# Altium footprint library PCBLIB.PcbLib: 22 footprints (part 2 of 2)
Each footprint in its own frame and in the unit in brackets; x right, y up, seen from the top. Pads: shape width x height; smd on the part's side, far side on the other; paste and mask are expansions set on the pad; w line width, h text height; cw(c..) or ccw(c..) is an arc to the next point about the centre after c.
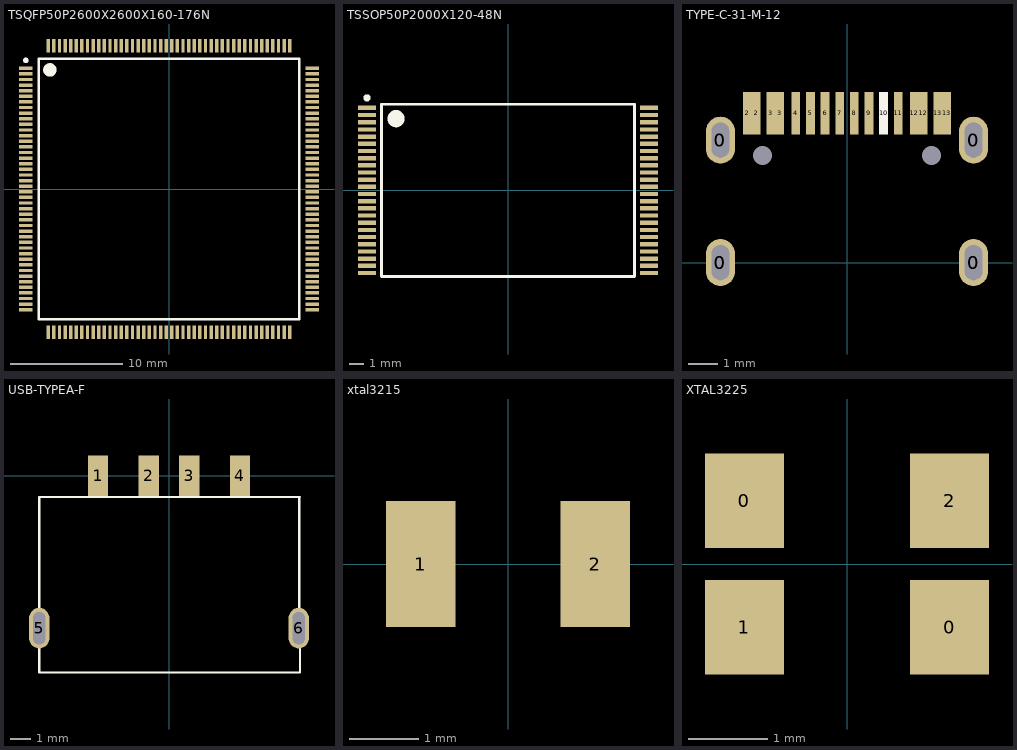
[diagram p1: the footprints below, top view; thin cyan lines are the x and y axes]

## TSQFP50P2600X2600X160-176N [mm] "TSQFP, 176-Leads, Body 24.00x24.00mm, Pitch 0.50mm, IPC Medium Density"
height 1.6
pads (176):
  rect 1.2x0.3 smd: 1(-12.75,10.75) 2(-12.75,10.25) 3(-12.75,9.75) 4(-12.75,9.25) 5(-12.75,8.75) 6(-12.75,8.25) 7(-12.75,7.75) 8(-12.75,7.25) 9(-12.75,6.75) 10(-12.75,6.25) 11(-12.75,5.75) 12(-12.75,5.25) 13(-12.75,4.75) 14(-12.75,4.25) 15(-12.75,3.75) 16(-12.75,3.25) 17(-12.75,2.75) 18(-12.75,2.25) 19(-12.75,1.75) 20(-12.75,1.25) 21(-12.75,0.75) 22(-12.75,0.25) 23(-12.75,-0.25) 24(-12.75,-0.75) 25(-12.75,-1.25) 26(-12.75,-1.75) 27(-12.75,-2.25) 28(-12.75,-2.75) 29(-12.75,-3.25) 30(-12.75,-3.75) 31(-12.75,-4.25) 32(-12.75,-4.75) 33(-12.75,-5.25) 34(-12.75,-5.75) 35(-12.75,-6.25) 36(-12.75,-6.75) 37(-12.75,-7.25) 38(-12.75,-7.75) 39(-12.75,-8.25) 40(-12.75,-8.75) 41(-12.75,-9.25) 42(-12.75,-9.75) 43(-12.75,-10.25) 44(-12.75,-10.75) 89(12.75,-10.75) 90(12.75,-10.25) 91(12.75,-9.75) 92(12.75,-9.25) 93(12.75,-8.75) 94(12.75,-8.25) 95(12.75,-7.75) 96(12.75,-7.25) 97(12.75,-6.75) 98(12.75,-6.25) 99(12.75,-5.75) 100(12.75,-5.25) 101(12.75,-4.75) 102(12.75,-4.25) 103(12.75,-3.75) 104(12.75,-3.25) 105(12.75,-2.75) 106(12.75,-2.25) 107(12.75,-1.75) 108(12.75,-1.25) 109(12.75,-0.75) 110(12.75,-0.25) 111(12.75,0.25) 112(12.75,0.75) 113(12.75,1.25) 114(12.75,1.75) 115(12.75,2.25) 116(12.75,2.75) 117(12.75,3.25) 118(12.75,3.75) 119(12.75,4.25) 120(12.75,4.75) 121(12.75,5.25) 122(12.75,5.75) 123(12.75,6.25) 124(12.75,6.75) 125(12.75,7.25) 126(12.75,7.75) 127(12.75,8.25) 128(12.75,8.75) 129(12.75,9.25) 130(12.75,9.75) 131(12.75,10.25) 132(12.75,10.75)
  rect 0.3x1.2 smd: 45(-10.75,-12.75) 46(-10.25,-12.75) 47(-9.75,-12.75) 48(-9.25,-12.75) 49(-8.75,-12.75) 50(-8.25,-12.75) 51(-7.75,-12.75) 52(-7.25,-12.75) 53(-6.75,-12.75) 54(-6.25,-12.75) 55(-5.75,-12.75) 56(-5.25,-12.75) 57(-4.75,-12.75) 58(-4.25,-12.75) 59(-3.75,-12.75) 60(-3.25,-12.75) 61(-2.75,-12.75) 62(-2.25,-12.75) 63(-1.75,-12.75) 64(-1.25,-12.75) 65(-0.75,-12.75) 66(-0.25,-12.75) 67(0.25,-12.75) 68(0.75,-12.75) 69(1.25,-12.75) 70(1.75,-12.75) 71(2.25,-12.75) 72(2.75,-12.75) 73(3.25,-12.75) 74(3.75,-12.75) 75(4.25,-12.75) 76(4.75,-12.75) 77(5.25,-12.75) 78(5.75,-12.75) 79(6.25,-12.75) 80(6.75,-12.75) 81(7.25,-12.75) 82(7.75,-12.75) 83(8.25,-12.75) 84(8.75,-12.75) 85(9.25,-12.75) 86(9.75,-12.75) 87(10.25,-12.75) 88(10.75,-12.75) 133(10.75,12.75) 134(10.25,12.75) 135(9.75,12.75) 136(9.25,12.75) 137(8.75,12.75) 138(8.25,12.75) 139(7.75,12.75) 140(7.25,12.75) 141(6.75,12.75) 142(6.25,12.75) 143(5.75,12.75) 144(5.25,12.75) 145(4.75,12.75) 146(4.25,12.75) 147(3.75,12.75) 148(3.25,12.75) 149(2.75,12.75) 150(2.25,12.75) 151(1.75,12.75) 152(1.25,12.75) 153(0.75,12.75) 154(0.25,12.75) 155(-0.25,12.75) 156(-0.75,12.75) 157(-1.25,12.75) 158(-1.75,12.75) 159(-2.25,12.75) 160(-2.75,12.75) 161(-3.25,12.75) 162(-3.75,12.75) 163(-4.25,12.75) 164(-4.75,12.75) 165(-5.25,12.75) 166(-5.75,12.75) 167(-6.25,12.75) 168(-6.75,12.75) 169(-7.25,12.75) 170(-7.75,12.75) 171(-8.25,12.75) 172(-8.75,12.75) 173(-9.25,12.75) 174(-9.75,12.75) 175(-10.25,12.75) 176(-10.75,12.75)
Top Overlay:
  circle w0.6: c-10.6,10.6 r0.3
  circle w0.25: c-12.75,11.45 r0.125
  lines w0.2: -11.6,-11.6 11.6,-11.6 11.6,11.6 -11.6,11.6 -11.6,-11.6
3D body: height 1.47, standoff 0, extent -13.009,-13.009 13.009,13.009

## TSSOP50P2000X120-48N [mm] "TSSOP, 48-Leads, Body 12.00x18.40mm, Pitch 0.50mm, IPC Medium Density"
height 1.2
pads (48):
  rect 1.25x0.3 smd: 1(-9.825,5.75) 2(-9.825,5.25) 3(-9.825,4.75) 4(-9.825,4.25) 5(-9.825,3.75) 6(-9.825,3.25) 7(-9.825,2.75) 8(-9.825,2.25) 9(-9.825,1.75) 10(-9.825,1.25) 11(-9.825,0.75) 12(-9.825,0.25) 13(-9.825,-0.25) 14(-9.825,-0.75) 15(-9.825,-1.25) 16(-9.825,-1.75) 17(-9.825,-2.25) 18(-9.825,-2.75) 19(-9.825,-3.25) 20(-9.825,-3.75) 21(-9.825,-4.25) 22(-9.825,-4.75) 23(-9.825,-5.25) 24(-9.825,-5.75) 25(9.825,-5.75) 26(9.825,-5.25) 27(9.825,-4.75) 28(9.825,-4.25) 29(9.825,-3.75) 30(9.825,-3.25) 31(9.825,-2.75) 32(9.825,-2.25) 33(9.825,-1.75) 34(9.825,-1.25) 35(9.825,-0.75) 36(9.825,-0.25) 37(9.825,0.25) 38(9.825,0.75) 39(9.825,1.25) 40(9.825,1.75) 41(9.825,2.25) 42(9.825,2.75) 43(9.825,3.25) 44(9.825,3.75) 45(9.825,4.25) 46(9.825,4.75) 47(9.825,5.25) 48(9.825,5.75)
Top Overlay:
  circle w0.25: c-9.825,6.45 r0.125
  circle w0.6: c-7.8,5 r0.3
  lines w0.2: -8.8,-6 -8.8,6 8.8,6 8.8,-6 -8.8,-6

## TYPE-C-31-M-12 [mm] "USB TypeC座子，韩国韩荣"
pads (26):
  oval 1x1.6 on Top Paste: 0(-4.32,0) 0(-4.32,4.18) 0(4.32,0) 0(4.32,4.18)
  oval 1x1.6 hole 0.6 slot 1.2 at 90 deg: 0(-4.32,0) 0(-4.32,4.18) 0(4.32,0) 0(4.32,4.18)
  round 0 hole 0.65 unplated: 0(-2.89,3.65) 0(2.89,3.65)
  rect 0.3x1.45 smd: 2(-3.4,5.095) 2(-3.1,5.095) 3(-2.6,5.095) 3(-2.3,5.095) 4(-1.75,5.095) 5(-1.25,5.095) 6(-0.75,5.095) 7(-0.25,5.095) 8(0.25,5.095) 9(0.75,5.095) 11(1.75,5.095) 12(2.3,5.095) 12(2.6,5.095) 13(3.1,5.095) 13(3.4,5.095)
  rect 0.3x1.45 on Top Overlay: 10(1.25,5.095)
3D body: height 3.25, standoff -0.85, extent -4.47,-2.6 4.47,5.3

## USB-TYPEA-F [mm] "USB A/F贴板 D款10.6前两脚无卷边铁壳LCP黑胶6.2无耳朵 耐高温"
pads (6):
  rect 1x2 smd: 1(-3.5,0) 2(-1,0) 3(1,0) 4(3.5,0)
  oval 1x2 hole 0.6 slot 1.6 at 90 deg: 5(-6.4,-7.53) 6(6.4,-7.53)
Top Overlay:
  lines w0.1: -6.401,-7.62 -6.401,-1.067 5.867,-1.067 ; -6.401,-6.401 -6.401,-9.728 6.452,-9.728 6.452,-8.484 ; 5.893,-1.067 6.452,-1.067 ; 6.426,-7.595 6.426,-1.118

## xtal3215 [mm]
pads (2):
  rect 1x1.8 smd: 1(-1.25,0) 2(1.25,0)
3D body: height 0.8, standoff 0, extent -1.6,-0.75 1.6,0.75

## XTAL3225 [mm]
pads (4):
  rect 1x1.2 smd: 0(-1.3,0.8) 0(1.3,-0.8) 1(-1.3,-0.8) 2(1.3,0.8)
3D body: height 0.81, standoff 0, extent -1.6,-1.25 1.6,1.25